# Altium integrated library Actel ProASIC3.IntLib: 465 symbols (part 16 of 68)
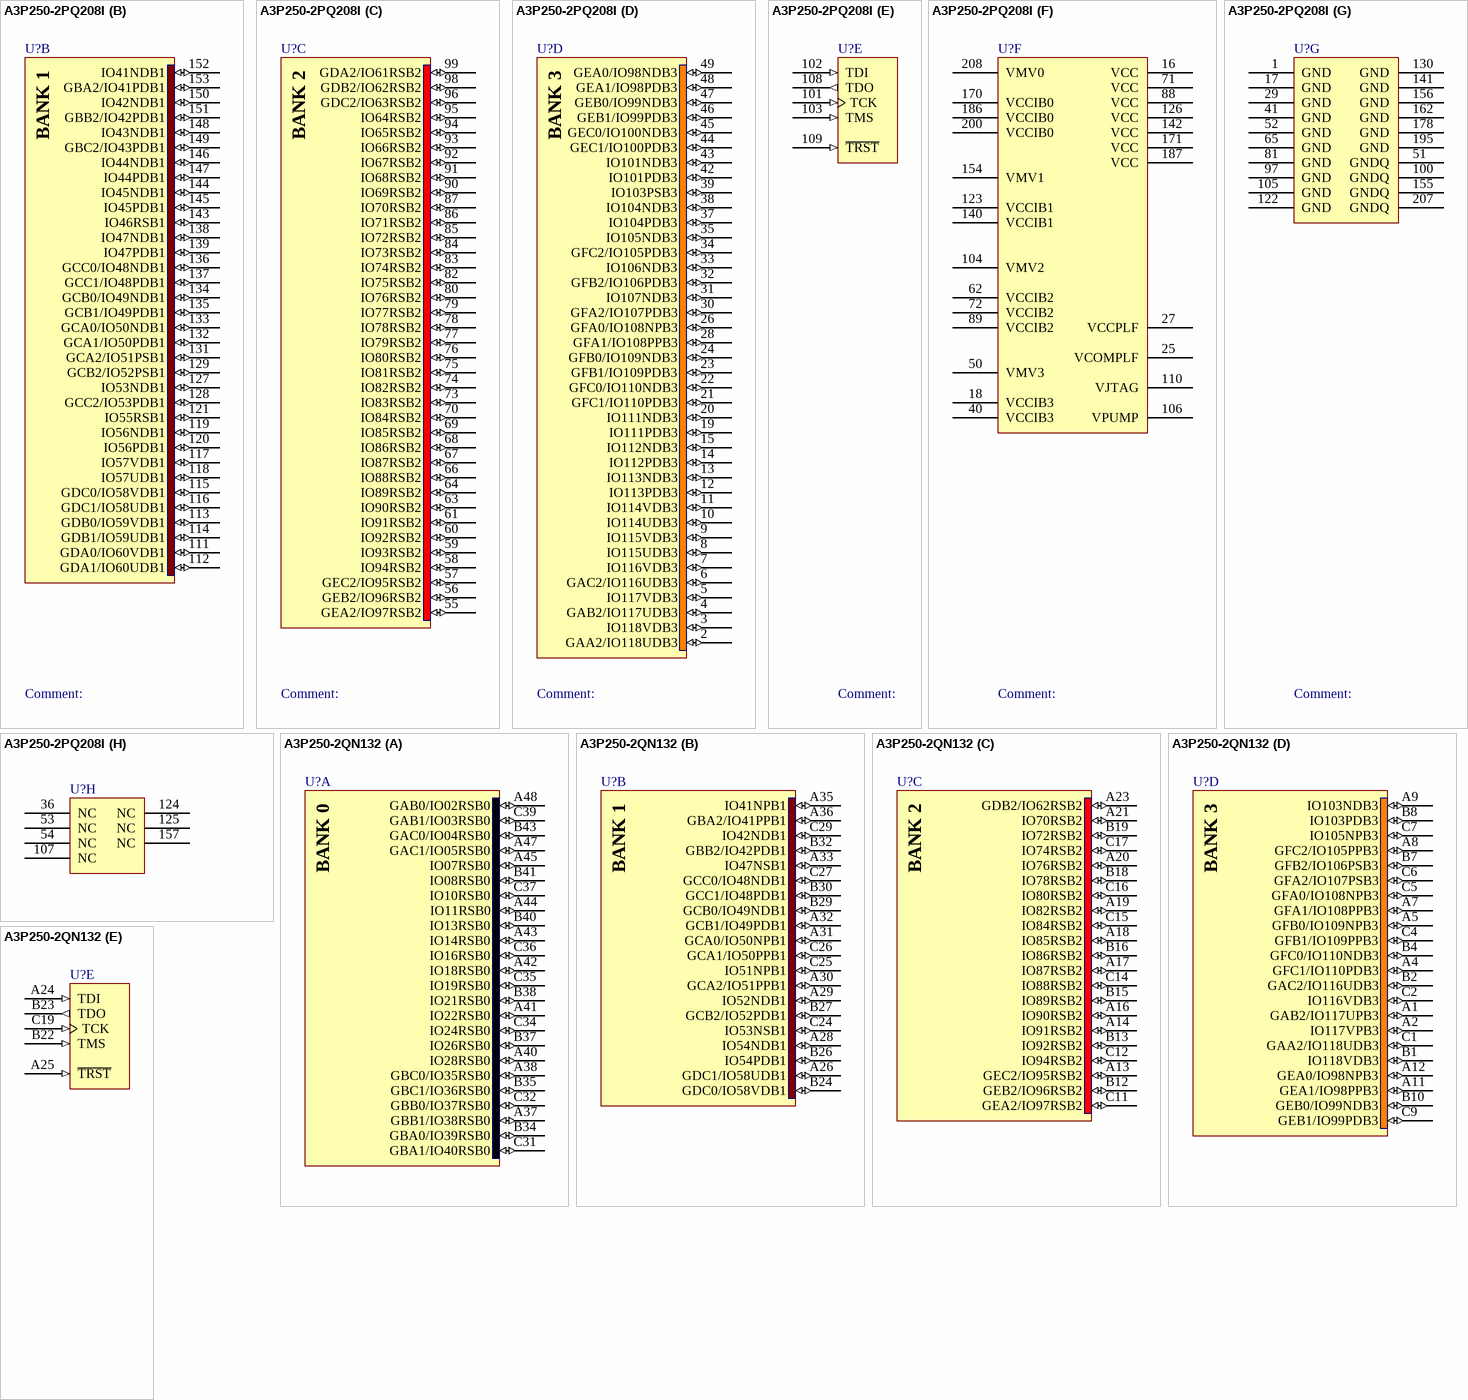
[diagram p431: symbols A3P250-2PQ208I to A3P250-2QN132]

## A3P250-2PQ208I
designator U?
ProASIC3 Flash Family FPGA, 151 User IOs, 250K System Gates, 36 Kbits RAM, 1 Kbit Flash ROM, 1 PLL, 208-Pin PQFP, Industrial Grade; DatasheetVersion: v1.3, Oct-2009; PackageVersion: ver11.2, Nov-2009; PackageReference: PQ208; PackageDescription: 208-Pin Plastic Quad Flat Pack (PQ208); Code_JEDEC: MS-029-FA-1; ComponentLink1Description: Manufacturer URL; ComponentLink1URL: http://www.actel.com/; ComponentLink2Description: ProASIC3 Datasheet; ComponentLink2URL: http://www.actel.com/documents/PA3_DS.pdf; ComponentLink3Description: Package Mechanical Drawings; ComponentLink3URL: http://www.actel.com/documents/PckgMechDrwngs.pdf; ComponentLink4Description: ProASIC3 Documents; ComponentLink4URL: http://www.actel.com/products/pa3/docs.aspx
footprint PQ208_N (Shrink QFP, 208-Leads, Body 28x28mm, Pitch 0.5mm, IPC Medium Density)
footprint PQ208_L (Shrink QFP, 208-Leads, Body 28x28mm, Pitch 0.5mm, IPC High Density)
footprint PQ208_M (Shrink QFP, 208-Leads, Body 28x28mm, Pitch 0.5mm, IPC Low Density)
part A pins: 158 GBA1/IO40RSB0 (io), 159 GBA0/IO39RSB0 (io), 160 GBB1/IO38RSB0 (io), 161 GBB0/IO37RSB0 (io), 163 GBC1/IO36RSB0 (io), 164 GBC0/IO35RSB0 (io), 165 IO34RSB0 (io), 166 IO33RSB0 (io), 167 IO32RSB0 (io), 168 IO31RSB0 (io), 169 IO30RSB0 (io), 172 IO29RSB0 (io), 173 IO28RSB0 (io), 174 IO27RSB0 (io), 175 IO26RSB0 (io), 176 IO25RSB0 (io), 177 IO24RSB0 (io), 179 IO23RSB0 (io), 180 IO22RSB0 (io), 181 IO21RSB0 (io), 182 IO20RSB0 (io), 183 IO19RSB0 (io), 184 IO18RSB0 (io), 185 IO17RSB0 (io), 188 IO16RSB0 (io), 189 IO15RSB0 (io), 190 IO14RSB0 (io), 191 IO13RSB0 (io), 192 IO12RSB0 (io), 193 IO11RSB0 (io), 194 IO10RSB0 (io), 196 IO09RSB0 (io), 197 IO08RSB0 (io), 198 IO07RSB0 (io), 199 IO06RSB0 (io), 201 GAC1/IO05RSB0 (io), 202 GAC0/IO04RSB0 (io), 203 GAB1/IO03RSB0 (io), 204 GAB0/IO02RSB0 (io), 205 GAA1/IO01RSB0 (io), 206 GAA0/IO00RSB0 (io)
part B pins: 111 GDA0/IO60VDB1 (io), 112 GDA1/IO60UDB1 (io), 113 GDB0/IO59VDB1 (io), 114 GDB1/IO59UDB1 (io), 115 GDC0/IO58VDB1 (io), 116 GDC1/IO58UDB1 (io), 117 IO57VDB1 (io), 118 IO57UDB1 (io), 119 IO56NDB1 (io), 120 IO56PDB1 (io), 121 IO55RSB1 (io), 127 IO53NDB1 (io), 128 GCC2/IO53PDB1 (io), 129 GCB2/IO52PSB1 (io), 131 GCA2/IO51PSB1 (io), 132 GCA1/IO50PDB1 (io), 133 GCA0/IO50NDB1 (io), 134 GCB0/IO49NDB1 (io), 135 GCB1/IO49PDB1 (io), 136 GCC0/IO48NDB1 (io), 137 GCC1/IO48PDB1 (io), 138 IO47NDB1 (io), 139 IO47PDB1 (io), 143 IO46RSB1 (io), 144 IO45NDB1 (io), 145 IO45PDB1 (io), 146 IO44NDB1 (io), 147 IO44PDB1 (io), 148 IO43NDB1 (io), 149 GBC2/IO43PDB1 (io), 150 IO42NDB1 (io), 151 GBB2/IO42PDB1 (io), 152 IO41NDB1 (io), 153 GBA2/IO41PDB1 (io)
part C pins: 55 GEA2/IO97RSB2 (io), 56 GEB2/IO96RSB2 (io), 57 GEC2/IO95RSB2 (io), 58 IO94RSB2 (io), 59 IO93RSB2 (io), 60 IO92RSB2 (io), 61 IO91RSB2 (io), 63 IO90RSB2 (io), 64 IO89RSB2 (io), 66 IO88RSB2 (io), 67 IO87RSB2 (io), 68 IO86RSB2 (io), 69 IO85RSB2 (io), 70 IO84RSB2 (io), 73 IO83RSB2 (io), 74 IO82RSB2 (io), 75 IO81RSB2 (io), 76 IO80RSB2 (io), 77 IO79RSB2 (io), 78 IO78RSB2 (io), 79 IO77RSB2 (io), 80 IO76RSB2 (io), 82 IO75RSB2 (io), 83 IO74RSB2 (io), 84 IO73RSB2 (io), 85 IO72RSB2 (io), 86 IO71RSB2 (io), 87 IO70RSB2 (io), 90 IO69RSB2 (io), 91 IO68RSB2 (io), 92 IO67RSB2 (io), 93 IO66RSB2 (io), 94 IO65RSB2 (io), 95 IO64RSB2 (io), 96 GDC2/IO63RSB2 (io), 98 GDB2/IO62RSB2 (io), 99 GDA2/IO61RSB2 (io)
part D pins: 2 GAA2/IO118UDB3 (io), 3 IO118VDB3 (io), 4 GAB2/IO117UDB3 (io), 5 IO117VDB3 (io), 6 GAC2/IO116UDB3 (io), 7 IO116VDB3 (io), 8 IO115UDB3 (io), 9 IO115VDB3 (io), 10 IO114UDB3 (io), 11 IO114VDB3 (io), 12 IO113PDB3 (io), 13 IO113NDB3 (io), 14 IO112PDB3 (io), 15 IO112NDB3 (io), 19 IO111PDB3 (io), 20 IO111NDB3 (io), 21 GFC1/IO110PDB3 (io), 22 GFC0/IO110NDB3 (io), 23 GFB1/IO109PDB3 (io), 24 GFB0/IO109NDB3 (io), 26 GFA0/IO108NPB3 (io), 28 GFA1/IO108PPB3 (io), 30 GFA2/IO107PDB3 (io), 31 IO107NDB3 (io), 32 GFB2/IO106PDB3 (io), 33 IO106NDB3 (io), 34 GFC2/IO105PDB3 (io), 35 IO105NDB3 (io), 37 IO104PDB3 (io), 38 IO104NDB3 (io), 39 IO103PSB3 (io), 42 IO101PDB3 (io), 43 IO101NDB3 (io), 44 GEC1/IO100PDB3 (io), 45 GEC0/IO100NDB3 (io), 46 GEB1/IO99PDB3 (io), 47 GEB0/IO99NDB3 (io), 48 GEA1/IO98PDB3 (io), 49 GEA0/IO98NDB3 (io)
part E pins: 101 TCK (in), 102 TDI (in), 103 TMS (in), 108 TDO (out), 109 ~{TRST} (in)
part F pins: 16 VCC (power), 18 VCCIB3 (power), 25 VCOMPLF (power), 27 VCCPLF (power), 40 VCCIB3 (power), 50 VMV3 (power), 62 VCCIB2 (power), 71 VCC (power), 72 VCCIB2 (power), 88 VCC (power), 89 VCCIB2 (power), 104 VMV2 (power), 106 VPUMP (power), 110 VJTAG (power), 123 VCCIB1 (power), 126 VCC (power), 140 VCCIB1 (power), 142 VCC (power), 154 VMV1 (power), 170 VCCIB0 (power), 171 VCC (power), 186 VCCIB0 (power), 187 VCC (power), 200 VCCIB0 (power), 208 VMV0 (power)
part G pins: 1 GND (power), 17 GND (power), 29 GND (power), 41 GND (power), 51 GNDQ (power), 52 GND (power), 65 GND (power), 81 GND (power), 97 GND (power), 100 GNDQ (power), 105 GND (power), 122 GND (power), 130 GND (power), 141 GND (power), 155 GNDQ (power), 156 GND (power), 162 GND (power), 178 GND (power), 195 GND (power), 207 GNDQ (power)
part H pins: 36 NC, 53 NC, 54 NC, 107 NC, 124 NC, 125 NC, 157 NC
part A text: BANK 0
part B text: BANK 1
part C text: BANK 2
part D text: BANK 3

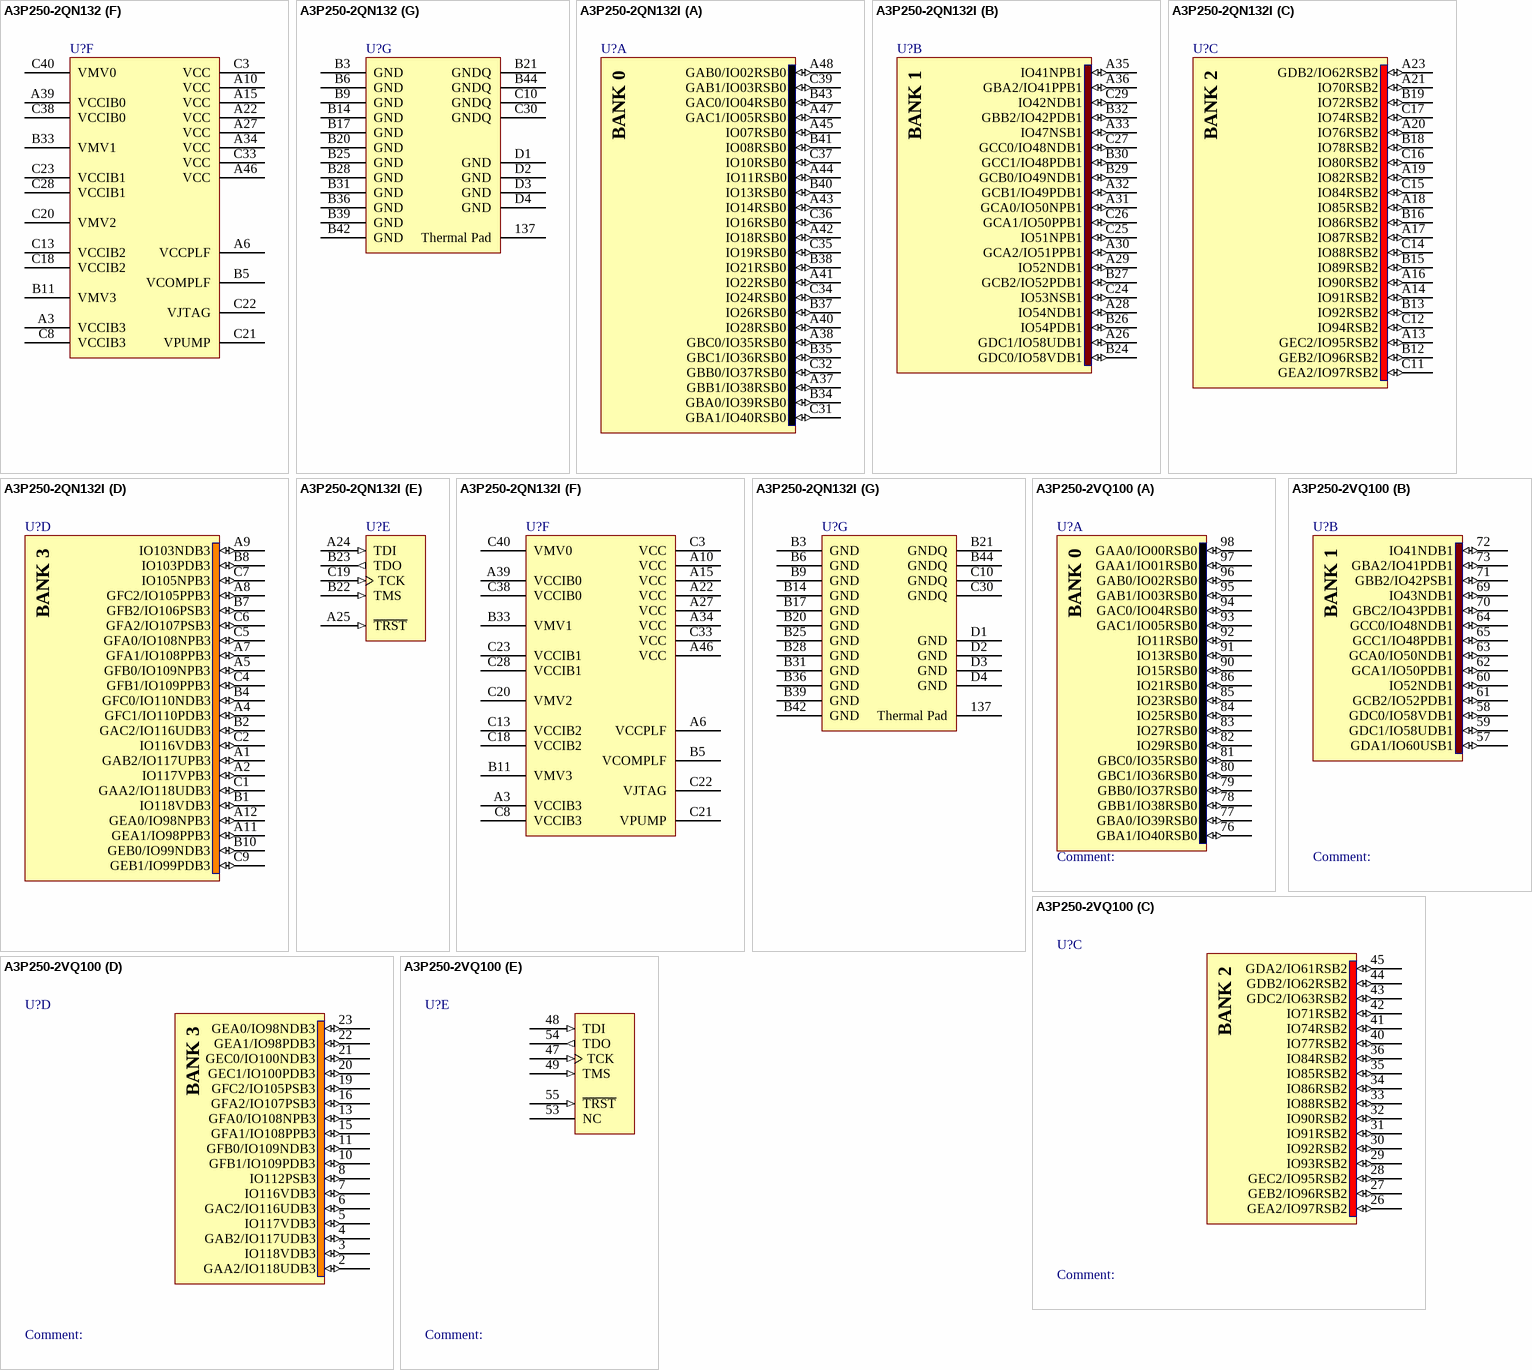
[diagram p70: symbols A3P250-2QN132 to A3P250-2VQ100]

## A3P250-2QN132
designator U?
ProASIC3 Flash Family FPGA, 87 User IOs, 250K System Gates, 36 Kbits RAM, 1 Kbit ProASIC3 Flash ROM, 1 PLL, 132-Pin QFN, Commercial Grade; DatasheetVersion: v1.3, Oct-2009; PackageVersion: ver11.2, Nov-2009; PackageReference: QN132; PackageDescription: 132-Pin Quad Flat Pack No-Leads (QN132); ComponentLink1Description: Manufacturer URL; ComponentLink1URL: http://www.actel.com/; ComponentLink2Description: ProASIC3 Datasheet; ComponentLink2URL: http://www.actel.com/documents/PA3_DS.pdf; ComponentLink3Description: Package Mechanical Drawings; ComponentLink3URL: http://www.actel.com/documents/PckgMechDrwngs.pdf; ComponentLink4Description: ProASIC3 Documents; ComponentLink4URL: http://www.actel.com/products/pa3/docs.aspx
footprint QN132 (QFN, 137-Leads, Body 8x8mm, Pitch 0.5mm, Thermal Pad 4.7x4.7mm)
part A pins: A37 GBB1/IO38RSB0 (io), A38 GBC0/IO35RSB0 (io), A40 IO28RSB0 (io), A41 IO22RSB0 (io), A42 IO18RSB0 (io), A43 IO14RSB0 (io), A44 IO11RSB0 (io), A45 IO07RSB0 (io), A47 GAC1/IO05RSB0 (io), A48 GAB0/IO02RSB0 (io), B34 GBA0/IO39RSB0 (io), B35 GBC1/IO36RSB0 (io), B37 IO26RSB0 (io), B38 IO21RSB0 (io), B40 IO13RSB0 (io), B41 IO08RSB0 (io), B43 GAC0/IO04RSB0 (io), C31 GBA1/IO40RSB0 (io), C32 GBB0/IO37RSB0 (io), C34 IO24RSB0 (io), C35 IO19RSB0 (io), C36 IO16RSB0 (io), C37 IO10RSB0 (io), C39 GAB1/IO03RSB0 (io)
part B pins: A26 GDC1/IO58UDB1 (io), A28 IO54NDB1 (io), A29 IO52NDB1 (io), A30 GCA2/IO51PPB1 (io), A31 GCA0/IO50NPB1 (io), A32 GCB1/IO49PDB1 (io), A33 IO47NSB1 (io), A35 IO41NPB1 (io), A36 GBA2/IO41PPB1 (io), B24 GDC0/IO58VDB1 (io), B26 IO54PDB1 (io), B27 GCB2/IO52PDB1 (io), B29 GCB0/IO49NDB1 (io), B30 GCC1/IO48PDB1 (io), B32 GBB2/IO42PDB1 (io), C24 IO53NSB1 (io), C25 IO51NPB1 (io), C26 GCA1/IO50PPB1 (io), C27 GCC0/IO48NDB1 (io), C29 IO42NDB1 (io)
part C pins: A13 GEC2/IO95RSB2 (io), A14 IO91RSB2 (io), A16 IO90RSB2 (io), A17 IO87RSB2 (io), A18 IO85RSB2 (io), A19 IO82RSB2 (io), A20 IO76RSB2 (io), A21 IO70RSB2 (io), A23 GDB2/IO62RSB2 (io), B12 GEB2/IO96RSB2 (io), B13 IO92RSB2 (io), B15 IO89RSB2 (io), B16 IO86RSB2 (io), B18 IO78RSB2 (io), B19 IO72RSB2 (io), C11 GEA2/IO97RSB2 (io), C12 IO94RSB2 (io), C14 IO88RSB2 (io), C15 IO84RSB2 (io), C16 IO80RSB2 (io), C17 IO74RSB2 (io)
part D pins: A1 GAB2/IO117UPB3 (io), A2 IO117VPB3 (io), A4 GFC1/IO110PDB3 (io), A5 GFB0/IO109NPB3 (io), A7 GFA1/IO108PPB3 (io), A8 GFC2/IO105PPB3 (io), A9 IO103NDB3 (io), A11 GEA1/IO98PPB3 (io), A12 GEA0/IO98NPB3 (io), B1 IO118VDB3 (io), B2 GAC2/IO116UDB3 (io), B4 GFC0/IO110NDB3 (io), B7 GFB2/IO106PSB3 (io), B8 IO103PDB3 (io), B10 GEB0/IO99NDB3 (io), C1 GAA2/IO118UDB3 (io), C2 IO116VDB3 (io), C4 GFB1/IO109PPB3 (io), C5 GFA0/IO108NPB3 (io), C6 GFA2/IO107PSB3 (io), C7 IO105NPB3 (io), C9 GEB1/IO99PDB3 (io)
part E pins: A24 TDI (in), A25 ~{TRST} (in), B22 TMS (in), B23 TDO (out), C19 TCK (in)
part F pins: A3 VCCIB3 (power), A6 VCCPLF (power), A10 VCC (power), A15 VCC (power), A22 VCC (power), A27 VCC (power), A34 VCC (power), A39 VCCIB0 (power), A46 VCC (power), B5 VCOMPLF (power), B11 VMV3 (power), B33 VMV1 (power), C3 VCC (power), C8 VCCIB3 (power), C13 VCCIB2 (power), C18 VCCIB2 (power), C20 VMV2 (power), C21 VPUMP (power), C22 VJTAG (power), C23 VCCIB1 (power), C28 VCCIB1 (power), C33 VCC (power), C38 VCCIB0 (power), C40 VMV0 (power)
part G pins: 137 Thermal Pad (power), B3 GND (power), B6 GND (power), B9 GND (power), B14 GND (power), B17 GND (power), B20 GND (power), B21 GNDQ (power), B25 GND (power), B28 GND (power), B31 GND (power), B36 GND (power), B39 GND (power), B42 GND (power), B44 GNDQ (power), C10 GNDQ (power), C30 GNDQ (power), D1 GND (power), D2 GND (power), D3 GND (power), D4 GND (power)
part A text: BANK 0
part B text: BANK 1
part C text: BANK 2
part D text: BANK 3